# EAGLE library part MCP9808 (library glacsweb)
i2c temp sensor, -20 to +100
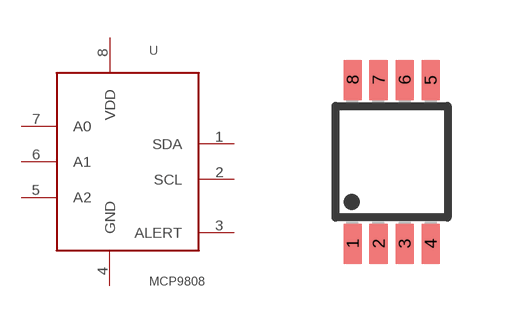
[diagram p15: symbol with the pads of MSOP8; footprint MSOP8]

Designator prefix -

## MCP9808-E/MS (MANUFACTURER: MICROCHIP; MPN: MCP9808-E/MS; OC_FARNEL: 2080523; PACKAGE: 8MSOP)  [MSOP8]
1  SDA
2  SCL
3  ALERT  out
4  GND  pwr
5  A2  in
6  A1  in
7  A0  in
8  VDD  pwr

## Footprint MSOP8 (pad centres in mm)
Micro Small Outline Package Grid .65mm
smd 0.45 x 1: 1 -0.975,-2.05; 2 -0.325,-2.05; 3 0.325,-2.05; 4 0.975,-2.05; 5 0.975,2.05; 6 0.325,2.05; 7 -0.325,2.05; 8 -0.975,2.05